# Altium schematic symbol library si8662bb-b-is1.SchLib: 1 symbol
Pins are listed as number, name and electrical type; pins without a type are passive.

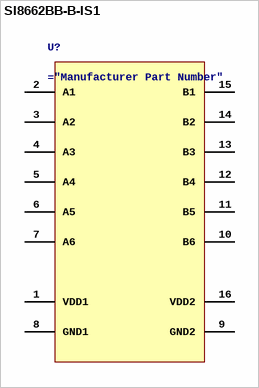
[diagram p0: symbol SI8662BB-B-IS1]

## SI8662BB-B-IS1
designator U?
6-ch 2.5kV Isolator, 150M, 4/2, NB SOIC16, lead free
pins: 1 VDD1, 2 A1, 3 A2, 4 A3, 5 A4, 6 A5, 7 A6, 8 GND1, 9 GND2, 10 B6, 11 B5, 12 B4, 13 B3, 14 B2, 15 B1, 16 VDD2